# EAGLE library part XA06 (library connectors)
Connector 6 pins, alternating
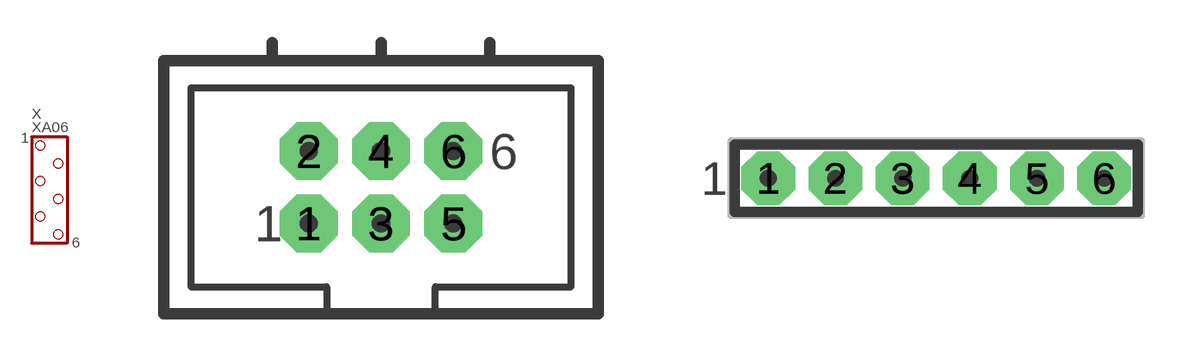
[diagram p3: symbol with the pads of X06N-IDC; footprints X06N-IDC, X06N-SIL]

Designator prefix X

## XA06I  [X06N-IDC]
1  1
2  2
3  3
4  4
5  5
6  6

## XA06N  [X06N-SIL]
Pads as for X06N-IDC

## XA06L  [X06L-SIL]
Pads as for X06N-IDC

## XA06R  [X06R-SIL]
Pads as for X06N-IDC

## XA06IR  [X06R-IDC]
Pads as for X06N-IDC

## XA06D  [X06N-DIL]
Pads as for X06N-IDC

## XA06DR  [X06R-DIL]
Pads as for X06N-IDC

## XA06  [X06N-IDC]
Pads as for X06N-IDC

## Footprint X06N-IDC (pad centres in mm)
Connector 6 pins, IDC
drill 0.889 pad 2.032 octagon: 1 -2.54,-1.27; 2 -2.54,1.27; 3 0,-1.27; 4 0,1.27; 5 2.54,-1.27; 6 2.54,1.27

## Footprint X06N-SIL (pad centres in mm)
Connector 6 pins, SIL
drill 0.889 pad 2.032 octagon: 1 -6.35,0; 2 -3.81,0; 3 -1.27,0; 4 1.27,0; 5 3.81,0; 6 6.35,0

## Footprint X06L-SIL (pad centres in mm)
Connector 6 pins, SIL, long pads
drill 0.889 pad 1.397 long: 1 -6.35,0; 2 -3.81,0; 3 -1.27,0; 4 1.27,0; 5 3.81,0; 6 6.35,0

## Footprint X06R-SIL (pad centres in mm)
Connector 6 pins, SIL, reduced pads
drill 0.889 pad 1.397 square: 1 -6.35,0; 2 -3.81,0; 3 -1.27,0; 4 1.27,0; 5 3.81,0; 6 6.35,0

## Footprint X06R-IDC (pad centres in mm)
Connector 6 pins, IDC, reduced pads
drill 0.889 pad 1.397 square: 1 -2.54,-1.27; 2 -2.54,1.27; 3 0,-1.27; 4 0,1.27; 5 2.54,-1.27; 6 2.54,1.27

## Footprint X06N-DIL (pad centres in mm)
Connector 6 pins, DIL
drill 0.889 pad 2.032 octagon: 1 -2.54,-1.27; 2 -2.54,1.27; 3 0,-1.27; 4 0,1.27; 5 2.54,-1.27; 6 2.54,1.27

## Footprint X06R-DIL (pad centres in mm)
Connector 6 pins, DIL, reduced pads
drill 0.889 pad 1.397 square: 1 -2.54,-1.27; 2 -2.54,1.27; 3 0,-1.27; 4 0,1.27; 5 2.54,-1.27; 6 2.54,1.27